# Altium schematic symbol library PX4FMUv2.4.6.SCHLIB: 261 symbols (part 1 of 3)
Pins are listed as number, name and electrical type; pins without a type are passive.

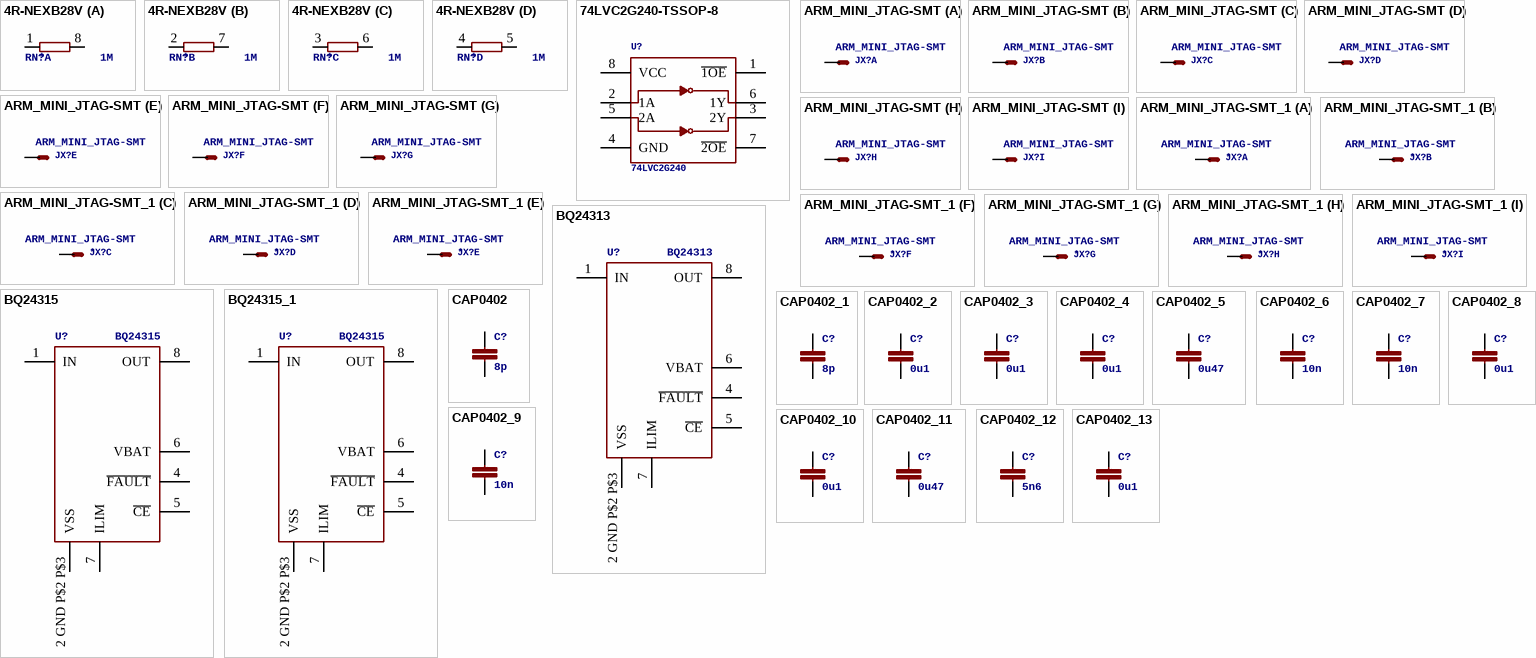
[diagram p0: symbols 4R-NEXB28V to CAP0402_13]

## 4R-NEXB28V
designator RN?, comment 1M
Array Chip ResistorSource: RS Component / Phycomp; PARTNO: EXB-28V105JX; GateName_1: A; SymbolName_1: R1NV; GateName_2: B; GateName_3: C; GateName_4: D; DeviceName: EXB28V; DeviceSetName: 4R-N; SymbolName_2: R1NV; SymbolName_3: R1NV; SymbolName_4: R1NV; LibraryName: resistor-dil; MF: *; MPN: *; OC_FARNELL: unknown; OC_NEWARK: unknown; NAME: *
footprint EXB28V
part A pins: 1, 8 2
part B pins: 2 1, 7 2
part C pins: 3 1, 6 2
part D pins: 4 1, 5 2

## 74LVC2G240-TSSOP-8
designator U?, comment 74LVC2G240
Dual inverter tri-state, 3.3V/5V compatible http://www.nxp.com/documents/data_sheet/74LVC2G240.pdfhttp://focus.ti.com/lit/ds/symlink/sn74lvc2g240.pdf; PARTNO: 74LVC2G240DP,125; GateName_1: G$1; DeviceName: -TSSOP-8; SymbolName_1: 74LVC2G240; LibraryName: pixhawk2; DeviceSetName: 74LVC2G240
footprint TSSOP8_SOT505-2
pins: 1 ~{1OE}, 2 1A, 3 2Y, 4 GND (oe), 5 2A, 6 1Y, 7 ~{2OE}, 8 VCC (oe)

## ARM_MINI_JTAG-SMT
designator JX?
CONNECTORwire to board 1.25 mm (.049 inch) pitch header; PARTNO: M50-3900542; GateName_1: -VTREF; SymbolName_1: MV; GateName_2: -TMS/SWDIO; SymbolName_2: M; GateName_3: -GND1; GateName_4: -TCK/SWCLK; GateName_5: -GND2; GateName_6: -TDO/SWO; GateName_7: -TDI/EXTB; GateName_8: -GND3; GateName_9: -!RESET; DeviceName: -SMT; BOM: EXCLUDE; SymbolName_3: M; SymbolName_4: M; SymbolName_5: M; SymbolName_6: M; SymbolName_7: M; SymbolName_8: M; SymbolName_9: M; LibraryName: pixhawk2; DeviceSetName: ARM_MINI_JTAG
footprint FTSH-105-01-XXX-DV-K
part A pins: 1 S
part B pins: 2 S
part C pins: 3 S
part D pins: 4 S
part E pins: 5 S
part F pins: 6 S
part G pins: 8 S
part H pins: 9 S
part I pins: 10 S

## ARM_MINI_JTAG-SMT_1
designator JX?, comment ARM_MINI_JTAG-SMT
CONNECTORwire to board 1.25 mm (.049 inch) pitch header; PARTNO: M50-3900542; GateName_1: -VTREF; SymbolName_1: MV; GateName_2: -TMS/SWDIO; SymbolName_2: M; GateName_3: -GND1; GateName_4: -TCK/SWCLK; GateName_5: -GND2; GateName_6: -TDO/SWO; GateName_7: -TDI/EXTB; GateName_8: -GND3; GateName_9: -!RESET; DeviceName: -SMT; BOM: EXCLUDE; SymbolName_3: M; SymbolName_4: M; SymbolName_5: M; SymbolName_6: M; SymbolName_7: M; SymbolName_8: M; SymbolName_9: M; LibraryName: pixhawk2; DeviceSetName: ARM_MINI_JTAG; NAME: *
footprint FTSH-105-01-XXX-DV-K
part A pins: 1 S
part B pins: 2 S
part C pins: 3 S
part D pins: 4 S
part E pins: 5 S
part F pins: 6 S
part G pins: 8 S
part H pins: 9 S
part I pins: 10 S

## BQ24313
designator U?
PARTNO: BQ24313DSGT; GateName_1: G$1; SymbolName_1: BQ24313; LibraryName: pixhawk2; DeviceSetName: BQ24313
footprint QFN8-DSG
pins: 1 IN, 2 GND P$2 P$3 VSS, 4 ~{FAULT}, 5 ~{CE}, 6 VBAT, 7 ILIM, 8 OUT

## BQ24315
designator U?
PARTNO: BQ24315DSGR; GateName_1: G$1; SymbolName_1: BQ24313; LibraryName: pixhawk2; DeviceSetName: BQ24315
footprint QFN8-DSG
pins: 1 IN, 2 GND P$2 P$3 VSS, 4 ~{FAULT}, 5 ~{CE}, 6 VBAT, 7 ILIM, 8 OUT

## BQ24315_1
designator U?, comment BQ24315
PARTNO: BQ24315DSGR; GateName_1: G$1; SymbolName_1: BQ24313; LibraryName: pixhawk2; DeviceSetName: BQ24315
footprint QFN8-DSG
pins: 1 IN, 2 GND P$2 P$3 VSS, 4 ~{FAULT}, 5 ~{CE}, 6 VBAT, 7 ILIM, 8 OUT

## CAP0402
designator C?, comment 8p
CapacitorStandard 0603 ceramic capacitor, and 0.1" leaded capacitor.; PARTNO: C1005C0G1H080C; GateName_1: G$1; SymbolName_1: CAP; DeviceName: 0402; LibraryName: pixhawk2; DeviceSetName: CAP
footprint 0402-CAP
pins: P$1 1, P$2 2

## CAP0402_1
designator C?, comment 8p
CapacitorStandard 0603 ceramic capacitor, and 0.1" leaded capacitor.; PARTNO: C1005C0G1H080C; GateName_1: G$1; SymbolName_1: CAP; DeviceName: 0402; LibraryName: pixhawk2; DeviceSetName: CAP
footprint 0402-CAP
pins: P$1 1, P$2 2

## CAP0402_2
designator C?, comment 0u1
CapacitorStandard 0603 ceramic capacitor, and 0.1" leaded capacitor.; PARTNO: CC0402ZRY5V7BB104; GateName_1: G$1; SymbolName_1: CAP; DeviceName: 0402; LibraryName: pixhawk2; DeviceSetName: CAP
footprint 0402-CAP
pins: P$1 1, P$2 2

## CAP0402_3
designator C?, comment 0u1
CapacitorStandard 0603 ceramic capacitor, and 0.1" leaded capacitor.; PARTNO: CC0402ZRY5V7BB104; GateName_1: G$1; SymbolName_1: CAP; DeviceName: 0402; LibraryName: pixhawk2; DeviceSetName: CAP
footprint 0402-CAP
pins: P$1 1, P$2 2

## CAP0402_4
designator C?, comment 0u1
CapacitorStandard 0603 ceramic capacitor, and 0.1" leaded capacitor.; PARTNO: CC0402ZRY5V7BB104; GateName_1: G$1; SymbolName_1: CAP; DeviceName: 0402; LibraryName: pixhawk2; DeviceSetName: CAP
footprint 0402-CAP
pins: P$1 1, P$2 2

## CAP0402_5
designator C?, comment 0u47
CapacitorStandard 0603 ceramic capacitor, and 0.1" leaded capacitor.; PARTNO: C1005X5R1C474K050BC; GateName_1: G$1; SymbolName_1: CAP; DeviceName: 0402; LibraryName: pixhawk2; DeviceSetName: CAP
footprint 0402-CAP
pins: P$1 1, P$2 2

## CAP0402_6
designator C?, comment 10n
CapacitorStandard 0603 ceramic capacitor, and 0.1" leaded capacitor.; PARTNO: CC0402KRX7R7BB103; GateName_1: G$1; SymbolName_1: CAP; DeviceName: 0402; LibraryName: pixhawk2; DeviceSetName: CAP
footprint 0402-CAP
pins: P$1 1, P$2 2

## CAP0402_7
designator C?, comment 10n
CapacitorStandard 0603 ceramic capacitor, and 0.1" leaded capacitor.; PARTNO: CC0402KRX7R7BB103; GateName_1: G$1; SymbolName_1: CAP; DeviceName: 0402; LibraryName: pixhawk2; DeviceSetName: CAP
footprint 0402-CAP
pins: P$1 1, P$2 2

## CAP0402_8
designator C?, comment 0u1
CapacitorStandard 0603 ceramic capacitor, and 0.1" leaded capacitor.; PARTNO: CC0402ZRY5V7BB104; GateName_1: G$1; SymbolName_1: CAP; DeviceName: 0402; LibraryName: pixhawk2; DeviceSetName: CAP
footprint 0402-CAP
pins: P$1 1, P$2 2

## CAP0402_9
designator C?, comment 10n
CapacitorStandard 0603 ceramic capacitor, and 0.1" leaded capacitor.; PARTNO: CC0402KRX7R7BB103; GateName_1: G$1; SymbolName_1: CAP; DeviceName: 0402; LibraryName: pixhawk2; DeviceSetName: CAP
footprint 0402-CAP
pins: P$1 1, P$2 2

## CAP0402_10
designator C?, comment 0u1
CapacitorStandard 0603 ceramic capacitor, and 0.1" leaded capacitor.; PARTNO: CC0402ZRY5V7BB104; GateName_1: G$1; SymbolName_1: CAP; DeviceName: 0402; LibraryName: pixhawk2; DeviceSetName: CAP
footprint 0402-CAP
pins: P$1 1, P$2 2

## CAP0402_11
designator C?, comment 0u47
CapacitorStandard 0603 ceramic capacitor, and 0.1" leaded capacitor.; PARTNO: C1005X5R1C474K050BC; GateName_1: G$1; SymbolName_1: CAP; DeviceName: 0402; LibraryName: pixhawk2; DeviceSetName: CAP
footprint 0402-CAP
pins: P$1 1, P$2 2

## CAP0402_12
designator C?, comment 5n6
CapacitorStandard 0603 ceramic capacitor, and 0.1" leaded capacitor.; PARTNO: C0402C562K5RACTU; GateName_1: G$1; SymbolName_1: CAP; DeviceName: 0402; LibraryName: pixhawk2; DeviceSetName: CAP
footprint 0402-CAP
pins: P$1 1, P$2 2

## CAP0402_13
designator C?, comment 0u1
CapacitorStandard 0603 ceramic capacitor, and 0.1" leaded capacitor.; PARTNO: CC0402ZRY5V7BB104; GateName_1: G$1; SymbolName_1: CAP; DeviceName: 0402; LibraryName: pixhawk2; DeviceSetName: CAP
footprint 0402-CAP
pins: P$1 1, P$2 2

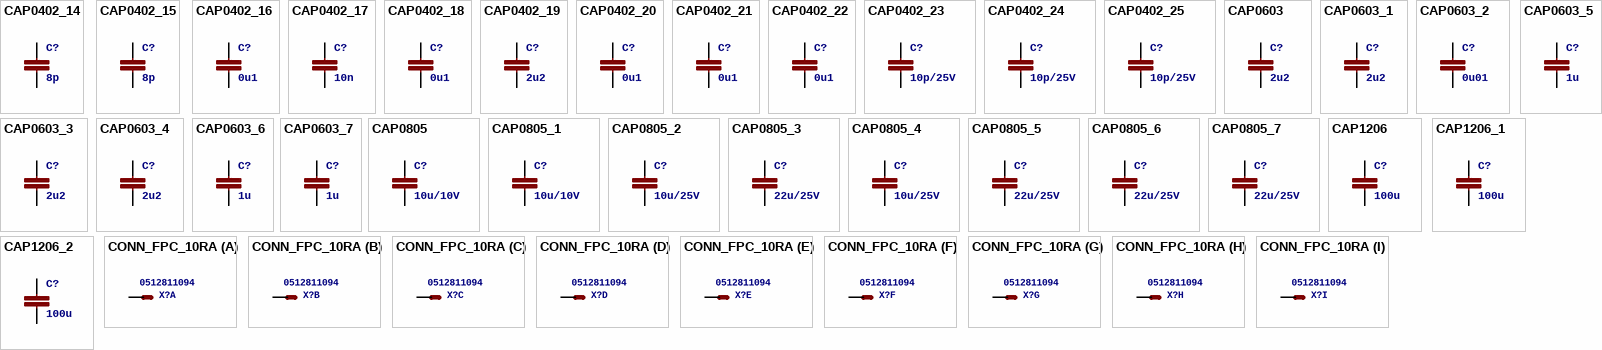
[diagram p1: symbols CAP0402_14 to CONN_FPC_10RA]

## CAP0402_14
designator C?, comment 8p
CapacitorStandard 0603 ceramic capacitor, and 0.1" leaded capacitor.; PARTNO: C1005C0G1H080C; GateName_1: G$1; SymbolName_1: CAP; DeviceName: 0402; LibraryName: pixhawk2; DeviceSetName: CAP
footprint 0402-CAP
pins: P$1 1, P$2 2

## CAP0402_15
designator C?, comment 8p
CapacitorStandard 0603 ceramic capacitor, and 0.1" leaded capacitor.; PARTNO: C1005C0G1H080C; GateName_1: G$1; SymbolName_1: CAP; DeviceName: 0402; LibraryName: pixhawk2; DeviceSetName: CAP
footprint 0402-CAP
pins: P$1 1, P$2 2

## CAP0402_16
designator C?, comment 0u1
CapacitorStandard 0603 ceramic capacitor, and 0.1" leaded capacitor.; PARTNO: CC0402ZRY5V7BB104; GateName_1: G$1; SymbolName_1: CAP; DeviceName: 0402; LibraryName: pixhawk2; DeviceSetName: CAP
footprint 0402-CAP
pins: P$1 1, P$2 2

## CAP0402_17
designator C?, comment 10n
CapacitorStandard 0603 ceramic capacitor, and 0.1" leaded capacitor.; PARTNO: CC0402KRX7R7BB103; GateName_1: G$1; SymbolName_1: CAP; DeviceName: 0402; LibraryName: pixhawk2; DeviceSetName: CAP
footprint 0402-CAP
pins: P$1 1, P$2 2

## CAP0402_18
designator C?, comment 0u1
CapacitorStandard 0603 ceramic capacitor, and 0.1" leaded capacitor.; PARTNO: CC0402ZRY5V7BB104; GateName_1: G$1; SymbolName_1: CAP; DeviceName: 0402; LibraryName: pixhawk2; DeviceSetName: CAP
footprint 0402-CAP
pins: P$1 1, P$2 2

## CAP0402_19
designator C?, comment 2u2
CapacitorStandard 0603 ceramic capacitor, and 0.1" leaded capacitor.; PARTNO: C1005X6S1C225K050BC; GateName_1: G$1; SymbolName_1: CAP; DeviceName: 0402; LibraryName: pixhawk2; DeviceSetName: CAP
footprint 0402-CAP
pins: P$1 1, P$2 2

## CAP0402_20
designator C?, comment 0u1
CapacitorStandard 0603 ceramic capacitor, and 0.1" leaded capacitor.; PARTNO: C1005X7R1E104K050BB; GateName_1: G$1; SymbolName_1: CAP; DeviceName: 0402; LibraryName: pixhawk2; DeviceSetName: CAP
footprint 0402-CAP
pins: P$1 1, P$2 2

## CAP0402_21
designator C?, comment 0u1
CapacitorStandard 0603 ceramic capacitor, and 0.1" leaded capacitor.; PARTNO: C1005X7R1E104K050BB; GateName_1: G$1; SymbolName_1: CAP; DeviceName: 0402; LibraryName: pixhawk2; DeviceSetName: CAP
footprint 0402-CAP
pins: P$1 1, P$2 2

## CAP0402_22
designator C?, comment 0u1
CapacitorStandard 0603 ceramic capacitor, and 0.1" leaded capacitor.; PARTNO: C1005X7R1E104K050BB; GateName_1: G$1; SymbolName_1: CAP; DeviceName: 0402; LibraryName: pixhawk2; DeviceSetName: CAP
footprint 0402-CAP
pins: P$1 1, P$2 2

## CAP0402_23
designator C?, comment 10p/25V
CapacitorStandard 0603 ceramic capacitor, and 0.1" leaded capacitor.; PARTNO: C0402C100J3GACTU; GateName_1: G$1; SymbolName_1: CAP; DeviceName: 0402; LibraryName: pixhawk2; DeviceSetName: CAP
footprint 0402-CAP
pins: P$1 1, P$2 2

## CAP0402_24
designator C?, comment 10p/25V
CapacitorStandard 0603 ceramic capacitor, and 0.1" leaded capacitor.; PARTNO: C0402C100J3GACTU; GateName_1: G$1; SymbolName_1: CAP; DeviceName: 0402; LibraryName: pixhawk2; DeviceSetName: CAP
footprint 0402-CAP
pins: P$1 1, P$2 2

## CAP0402_25
designator C?, comment 10p/25V
CapacitorStandard 0603 ceramic capacitor, and 0.1" leaded capacitor.; PARTNO: C0402C100J3GACTU; GateName_1: G$1; SymbolName_1: CAP; DeviceName: 0402; LibraryName: pixhawk2; DeviceSetName: CAP
footprint 0402-CAP
pins: P$1 1, P$2 2

## CAP0603
designator C?, comment 2u2
CapacitorStandard 0603 ceramic capacitor, and 0.1" leaded capacitor.; PARTNO: C1608X6S1C225K080AC; GateName_1: G$1; SymbolName_1: CAP; DeviceName: 0603; LibraryName: pixhawk2; DeviceSetName: CAP
footprint 0603-CAP
pins: P$1 1, P$2 2

## CAP0603_1
designator C?, comment 2u2
CapacitorStandard 0603 ceramic capacitor, and 0.1" leaded capacitor.; PARTNO: C1608X6S1C225K080AC; GateName_1: G$1; SymbolName_1: CAP; DeviceName: 0603; LibraryName: pixhawk2; DeviceSetName: CAP
footprint 0603-CAP
pins: P$1 1, P$2 2

## CAP0603_2
designator C?, comment 0u01
CapacitorStandard 0603 ceramic capacitor, and 0.1" leaded capacitor.; PARTNO: 06033C103JAT2A; GateName_1: G$1; SymbolName_1: CAP; DeviceName: 0603; LibraryName: pixhawk2; DeviceSetName: CAP
footprint 0603-CAP
pins: P$1 1, P$2 2

## CAP0603_3
designator C?, comment 2u2
CapacitorStandard 0603 ceramic capacitor, and 0.1" leaded capacitor.; PARTNO: C1608X6S1C225K080AC; GateName_1: G$1; SymbolName_1: CAP; DeviceName: 0603; LibraryName: pixhawk2; DeviceSetName: CAP
footprint 0603-CAP
pins: P$1 1, P$2 2

## CAP0603_4
designator C?, comment 2u2
CapacitorStandard 0603 ceramic capacitor, and 0.1" leaded capacitor.; PARTNO: C1608X6S1C225K080AC; GateName_1: G$1; SymbolName_1: CAP; DeviceName: 0603; LibraryName: pixhawk2; DeviceSetName: CAP
footprint 0603-CAP
pins: P$1 1, P$2 2

## CAP0603_5
designator C?, comment 1u
CapacitorStandard 0603 ceramic capacitor, and 0.1" leaded capacitor.; PARTNO: CC0603ZRY5V7BB105; GateName_1: G$1; SymbolName_1: CAP; DeviceName: 0603; LibraryName: pixhawk2; DeviceSetName: CAP
footprint 0603-CAP
pins: P$1 1, P$2 2

## CAP0603_6
designator C?, comment 1u
CapacitorStandard 0603 ceramic capacitor, and 0.1" leaded capacitor.; PARTNO: CC0603ZRY5V7BB105; GateName_1: G$1; SymbolName_1: CAP; DeviceName: 0603; LibraryName: pixhawk2; DeviceSetName: CAP
footprint 0603-CAP
pins: P$1 1, P$2 2

## CAP0603_7
designator C?, comment 1u
CapacitorStandard 0603 ceramic capacitor, and 0.1" leaded capacitor.; PARTNO: CC0603ZRY5V7BB105; GateName_1: G$1; SymbolName_1: CAP; DeviceName: 0603; LibraryName: pixhawk2; DeviceSetName: CAP
footprint 0603-CAP
pins: P$1 1, P$2 2

## CAP0805
designator C?, comment 10u/10V
CapacitorStandard 0603 ceramic capacitor, and 0.1" leaded capacitor.; PARTNO: CC0805ZKY5V6BB106; GateName_1: G$1; SymbolName_1: CAP; DeviceName: 0805; LibraryName: pixhawk2; DeviceSetName: CAP
footprint 0805-CAP
pins: P$1 1, P$2 2

## CAP0805_1
designator C?, comment 10u/10V
CapacitorStandard 0603 ceramic capacitor, and 0.1" leaded capacitor.; PARTNO: CC0805ZKY5V6BB106; GateName_1: G$1; SymbolName_1: CAP; DeviceName: 0805; LibraryName: pixhawk2; DeviceSetName: CAP
footprint 0805-CAP
pins: P$1 1, P$2 2

## CAP0805_2
designator C?, comment 10u/25V
CapacitorStandard 0603 ceramic capacitor, and 0.1" leaded capacitor.; PARTNO: CL21A106KAYNNNE; GateName_1: G$1; SymbolName_1: CAP; DeviceName: 0805; LibraryName: pixhawk2; DeviceSetName: CAP
footprint 0805-CAP
pins: P$1 1, P$2 2

## CAP0805_3
designator C?, comment 22u/25V
CapacitorStandard 0603 ceramic capacitor, and 0.1" leaded capacitor.; PARTNO: CL21A226MAQNNNE; GateName_1: G$1; SymbolName_1: CAP; DeviceName: 0805; LibraryName: pixhawk2; DeviceSetName: CAP
footprint 0805-CAP
pins: P$1 1, P$2 2

## CAP0805_4
designator C?, comment 10u/25V
CapacitorStandard 0603 ceramic capacitor, and 0.1" leaded capacitor.; PARTNO: CL21A106KAYNNNE; GateName_1: G$1; SymbolName_1: CAP; DeviceName: 0805; LibraryName: pixhawk2; DeviceSetName: CAP
footprint 0805-CAP
pins: P$1 1, P$2 2

## CAP0805_5
designator C?, comment 22u/25V
CapacitorStandard 0603 ceramic capacitor, and 0.1" leaded capacitor.; PARTNO: CL21A226MAQNNNE; GateName_1: G$1; SymbolName_1: CAP; DeviceName: 0805; LibraryName: pixhawk2; DeviceSetName: CAP
footprint 0805-CAP
pins: P$1 1, P$2 2

## CAP0805_6
designator C?, comment 22u/25V
CapacitorStandard 0603 ceramic capacitor, and 0.1" leaded capacitor.; PARTNO: CL21A226MAQNNNE; GateName_1: G$1; SymbolName_1: CAP; DeviceName: 0805; LibraryName: pixhawk2; DeviceSetName: CAP
footprint 0805-CAP
pins: P$1 1, P$2 2

## CAP0805_7
designator C?, comment 22u/25V
CapacitorStandard 0603 ceramic capacitor, and 0.1" leaded capacitor.; PARTNO: CL21A226MAQNNNE; GateName_1: G$1; SymbolName_1: CAP; DeviceName: 0805; LibraryName: pixhawk2; DeviceSetName: CAP
footprint 0805-CAP
pins: P$1 1, P$2 2

## CAP1206
designator C?, comment 100u
CapacitorStandard 0603 ceramic capacitor, and 0.1" leaded capacitor.; PARTNO: C3216X5R1A107M160AC; GateName_1: G$1; SymbolName_1: CAP; DeviceName: 1206; LibraryName: pixhawk2; DeviceSetName: CAP
footprint 1206-CAP
pins: P$1 1, P$2 2

## CAP1206_1
designator C?, comment 100u
CapacitorStandard 0603 ceramic capacitor, and 0.1" leaded capacitor.; PARTNO: C3216X5R1A107M160AC; GateName_1: G$1; SymbolName_1: CAP; DeviceName: 1206; LibraryName: pixhawk2; DeviceSetName: CAP
footprint 1206-CAP
pins: P$1 1, P$2 2

## CAP1206_2
designator C?, comment 100u
CapacitorStandard 0603 ceramic capacitor, and 0.1" leaded capacitor.; PARTNO: C3216X5R1A107M160AC; GateName_1: G$1; SymbolName_1: CAP; DeviceName: 1206; LibraryName: pixhawk2; DeviceSetName: CAP
footprint 1206-CAP
pins: P$1 1, P$2 2

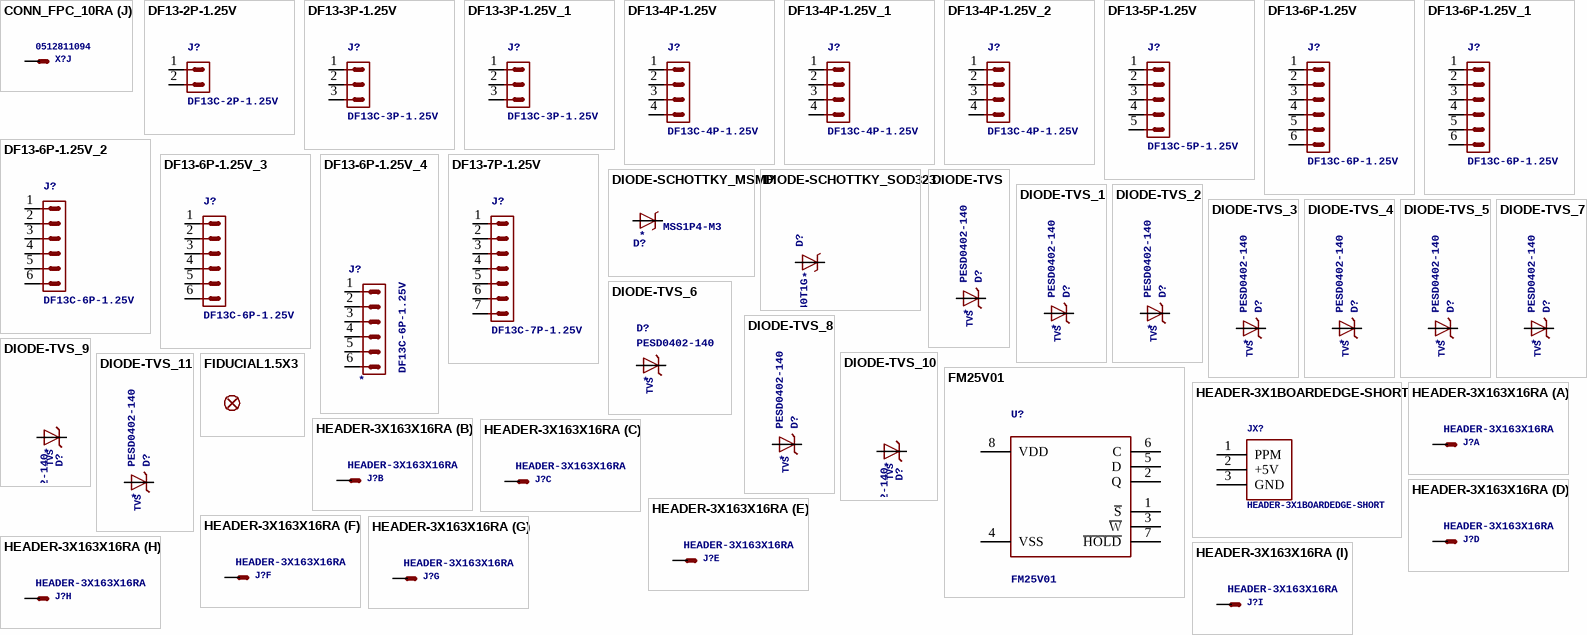
[diagram p2: symbols CONN_FPC_10RA to HEADER-3X163X16RA]

## CONN_FPC_10RA
designator X?, comment 0512811094
10-pin FPC connector for PX4 sensor board; PARTNO: 0781191109; GateName_1: G$1; SymbolName_1: KV; GateName_2: G$2; SymbolName_2: K; GateName_3: G$3; GateName_4: G$4; GateName_5: G$5; GateName_6: G$6; GateName_7: G$7; GateName_8: G$8; GateName_9: G$9; GateName_10: G$10; DeviceName: RA; DeviceSetName: CONN_FPC_10; BOM: EXCLUDE; SymbolName_3: K; SymbolName_4: K; SymbolName_5: K; SymbolName_6: K; SymbolName_7: K; SymbolName_8: K; SymbolName_9: K; SymbolName_10: K; LibraryName: pixhawk2
footprint 51281-1094
part A pins: 1 S
part B pins: 2 S
part C pins: 3 S
part D pins: 4 S
part E pins: 5 S
part F pins: 6 S
part G pins: 7 S
part H pins: 8 S
part I pins: 9 S
part J pins: 10 S

## DF13-2P-1.25V
designator J?, comment DF13C-2P-1.25V
DF13-2P 1.25mm Pitch Miniature Crimping Connector.; PARTNO: DF13C-2P-1.25V(20); GateName_1: G$1; SymbolName_1: CON-1X2P; DeviceName: V; DeviceSetName: DF13-2P-1.25; LibraryName: con-hirose-df13
footprint DF13C-2P-1.25V
pins: 1, 2

## DF13-3P-1.25V
designator J?, comment DF13C-3P-1.25V
DF13-3P 1.25mm Pitch Miniature Crimping Connector.; PARTNO: DF13C-3P-1.25V(20); GateName_1: G$1; SymbolName_1: CON-1X3P; DeviceName: V; DeviceSetName: DF13-3P-1.25; LibraryName: con-hirose-df13
footprint DF13C-3P-1.25V
pins: 1, 2, 3

## DF13-3P-1.25V_1
designator J?, comment DF13C-3P-1.25V
DF13-3P 1.25mm Pitch Miniature Crimping Connector.; PARTNO: DF13C-3P-1.25V(20); GateName_1: G$1; SymbolName_1: CON-1X3P; DeviceName: V; DeviceSetName: DF13-3P-1.25; LibraryName: con-hirose-df13
footprint DF13C-3P-1.25V
pins: 1, 2, 3

## DF13-4P-1.25V
designator J?, comment DF13C-4P-1.25V
DF13-4P 1.25mm Pitch Miniature Crimping Connector.; PARTNO: DF13C-4P-1.25V(20); GateName_1: G$1; SymbolName_1: CON-1X4P; DeviceName: V; DeviceSetName: DF13-4P-1.25; LibraryName: con-hirose-df13
footprint DF13C-4P-1.25V
pins: 1, 2, 3, 4

## DF13-4P-1.25V_1
designator J?, comment DF13C-4P-1.25V
DF13-4P 1.25mm Pitch Miniature Crimping Connector.; PARTNO: DF13C-4P-1.25V(20); GateName_1: G$1; SymbolName_1: CON-1X4P; DeviceName: V; DeviceSetName: DF13-4P-1.25; LibraryName: con-hirose-df13
footprint DF13C-4P-1.25V
pins: 1, 2, 3, 4

## DF13-4P-1.25V_2
designator J?, comment DF13C-4P-1.25V
DF13-4P 1.25mm Pitch Miniature Crimping Connector.; PARTNO: DF13C-4P-1.25V(20); GateName_1: G$1; SymbolName_1: CON-1X4P; DeviceName: V; DeviceSetName: DF13-4P-1.25; LibraryName: con-hirose-df13
footprint DF13C-4P-1.25V
pins: 1, 2, 3, 4

## DF13-5P-1.25V
designator J?, comment DF13C-5P-1.25V
DF13-5P 1.25mm Pitch Miniature Crimping Connector.; PARTNO: DF13C-5P-1.25V(20); GateName_1: G$1; SymbolName_1: CON-1X5P; DeviceName: V; DeviceSetName: DF13-5P-1.25; LibraryName: con-hirose-df13
footprint DF13C-5P-1.25V
pins: 1, 2, 3, 4, 5

## DF13-6P-1.25V
designator J?, comment DF13C-6P-1.25V
DF13-6P 1.25mm Pitch Miniature Crimping Connector.; PARTNO: DF13C-6P-1.25V(20); GateName_1: G$1; SymbolName_1: CON-1X6P; DeviceName: V; DeviceSetName: DF13-6P-1.25; LibraryName: con-hirose-df13
footprint DF13C-6P-1.25V
pins: 1, 2, 3, 4, 5, 6

## DF13-6P-1.25V_1
designator J?, comment DF13C-6P-1.25V
DF13-6P 1.25mm Pitch Miniature Crimping Connector.; PARTNO: DF13C-6P-1.25V(20); GateName_1: G$1; SymbolName_1: CON-1X6P; DeviceName: V; DeviceSetName: DF13-6P-1.25; LibraryName: con-hirose-df13
footprint DF13C-6P-1.25V
pins: 1, 2, 3, 4, 5, 6

## DF13-6P-1.25V_2
designator J?, comment DF13C-6P-1.25V
DF13-6P 1.25mm Pitch Miniature Crimping Connector.; PARTNO: DF13C-6P-1.25V(20); GateName_1: G$1; SymbolName_1: CON-1X6P; DeviceName: V; DeviceSetName: DF13-6P-1.25; LibraryName: con-hirose-df13
footprint DF13C-6P-1.25V
pins: 1, 2, 3, 4, 5, 6

## DF13-6P-1.25V_3
designator J?, comment DF13C-6P-1.25V
DF13-6P 1.25mm Pitch Miniature Crimping Connector.; PARTNO: DF13C-6P-1.25V(20); GateName_1: G$1; SymbolName_1: CON-1X6P; DeviceName: V; DeviceSetName: DF13-6P-1.25; LibraryName: con-hirose-df13
footprint DF13C-6P-1.25V
pins: 1, 2, 3, 4, 5, 6

## DF13-6P-1.25V_4
designator J?, comment DF13C-6P-1.25V
DF13-6P 1.25mm Pitch Miniature Crimping Connector.; PARTNO: DF13C-6P-1.25V(20); GateName_1: G$1; SymbolName_1: CON-1X6P; DeviceName: V; DeviceSetName: DF13-6P-1.25; LibraryName: con-hirose-df13; NAME: *
footprint DF13C-6P-1.25V
pins: 1, 2, 3, 4, 5, 6

## DF13-7P-1.25V
designator J?, comment DF13C-7P-1.25V
DF13-7P 1.25mm Pitch Miniature Crimping Connector.; PARTNO: DF13C-7P-1.25V(20); GateName_1: G$1; SymbolName_1: CON-1X7P; DeviceName: V; DeviceSetName: DF13-7P-1.25; LibraryName: con-hirose-df13
footprint DF13C-7P-1.25V
pins: 1, 2, 3, 4, 5, 6, 7

## DIODE-SCHOTTKY_MSMP
designator D?, comment MSS1P4-M3
Schottky barrier diode in DO214AC, e.g. Fairchild SS14.; PARTNO: MSS1P4-M3/89A; GateName_1: G$1; SymbolName_1: DIODE-SCHOTTKY; DeviceName: _MSMP; LibraryName: pixhawk2; DeviceSetName: DIODE-SCHOTTKY; NAME: *
footprint MICROSMP
pins: ANODE A, CATHODE C

## DIODE-SCHOTTKY_SOD323
designator D?, comment RB751V40T1G
Schottky barrier diode in DO214AC, e.g. Fairchild SS14.; GateName_1: G$1; SymbolName_1: DIODE-SCHOTTKY; DeviceName: _SOD323; LibraryName: pixhawk2; DeviceSetName: DIODE-SCHOTTKY; NAME: *; PARTNO: RB751V40T1G
footprint SOD323
pins: A, C

## DIODE-TVS
designator D?, comment PESD0402-140
GateName_1: G$1; SymbolName_1: DIODE-TVS; LibraryName: pixhawk2; DeviceSetName: DIODE-TVS; NAME: *; PARTNO: PESD0402-140; TVS: TVS
footprint 0402-TVS
pins: A, C

## DIODE-TVS_1
designator D?, comment PESD0402-140
GateName_1: G$1; SymbolName_1: DIODE-TVS; LibraryName: pixhawk2; DeviceSetName: DIODE-TVS; NAME: *; PARTNO: PESD0402-140; TVS: TVS
footprint 0402-TVS
pins: A, C

## DIODE-TVS_2
designator D?, comment PESD0402-140
GateName_1: G$1; SymbolName_1: DIODE-TVS; LibraryName: pixhawk2; DeviceSetName: DIODE-TVS; NAME: *; PARTNO: PESD0402-140; TVS: TVS
footprint 0402-TVS
pins: A, C

## DIODE-TVS_3
designator D?, comment PESD0402-140
GateName_1: G$1; SymbolName_1: DIODE-TVS; LibraryName: pixhawk2; DeviceSetName: DIODE-TVS; NAME: *; PARTNO: PESD0402-140; TVS: TVS
footprint 0402-TVS
pins: A, C

## DIODE-TVS_4
designator D?, comment PESD0402-140
GateName_1: G$1; SymbolName_1: DIODE-TVS; LibraryName: pixhawk2; DeviceSetName: DIODE-TVS; NAME: *; PARTNO: PESD0402-140; TVS: TVS
footprint 0402-TVS
pins: A, C

## DIODE-TVS_5
designator D?, comment PESD0402-140
GateName_1: G$1; SymbolName_1: DIODE-TVS; LibraryName: pixhawk2; DeviceSetName: DIODE-TVS; NAME: *; PARTNO: PESD0402-140; TVS: TVS
footprint 0402-TVS
pins: A, C

## DIODE-TVS_6
designator D?, comment PESD0402-140
GateName_1: G$1; SymbolName_1: DIODE-TVS; LibraryName: pixhawk2; DeviceSetName: DIODE-TVS; NAME: *; PARTNO: PESD0402-140; TVS: TVS
footprint 0402-TVS
pins: A, C

## DIODE-TVS_7
designator D?, comment PESD0402-140
GateName_1: G$1; SymbolName_1: DIODE-TVS; LibraryName: pixhawk2; DeviceSetName: DIODE-TVS; NAME: *; PARTNO: PESD0402-140; TVS: TVS
footprint 0402-TVS
pins: A, C

## DIODE-TVS_8
designator D?, comment PESD0402-140
GateName_1: G$1; SymbolName_1: DIODE-TVS; LibraryName: pixhawk2; DeviceSetName: DIODE-TVS; NAME: *; PARTNO: PESD0402-140; TVS: TVS
footprint 0402-TVS
pins: A, C

## DIODE-TVS_9
designator D?, comment PESD0402-140
GateName_1: G$1; SymbolName_1: DIODE-TVS; LibraryName: pixhawk2; DeviceSetName: DIODE-TVS; NAME: *; PARTNO: PESD0402-140; TVS: TVS
footprint 0402-TVS
pins: A, C

## DIODE-TVS_10
designator D?, comment PESD0402-140
GateName_1: G$1; SymbolName_1: DIODE-TVS; LibraryName: pixhawk2; DeviceSetName: DIODE-TVS; NAME: *; PARTNO: PESD0402-140; TVS: TVS
footprint 0402-TVS
pins: A, C

## DIODE-TVS_11
designator D?, comment PESD0402-140
GateName_1: G$1; SymbolName_1: DIODE-TVS; LibraryName: pixhawk2; DeviceSetName: DIODE-TVS; NAME: *; PARTNO: PESD0402-140; TVS: TVS
footprint 0402-TVS
pins: A, C

## FIDUCIAL1.5X3
designator JP?  (value not drawn)
Fiducial Alignment PointsVarious fiducial points for machine vision alignment.; GateName_1: G$1; DeviceName: 1.5X3; BOM: EXCLUDE; SymbolName_1: FIDUCIAL; LibraryName: pixhawk2; DeviceSetName: FIDUCIAL; PARTNO: *
footprint FIDUCIAL-1.5X3

## FM25V01
designator U?
FM25V01 128Kb Serial 3V F-RAM Memory; PARTNO: FM25V01-G; GateName_1: G$1; SymbolName_1: FM25V01; LibraryName: pixhawk2; DeviceSetName: FM25V01; DATASHEET: http://www.ramtron.com/files/datasheets/FM25V01_ds.pdf; LINK: http://www.digikey.com/product-detail/en/FM25V01-GTR/1140-1026-1-ND/2809832; MFGPN: FM25V01
footprint SO08
pins: 1 ~{S}, 2 Q, 3 ~{W}, 4 VSS, 5 D, 6 C, 7 ~{HOLD}, 8 VDD

## HEADER-3X1BOARDEDGE-SHORT
designator JX?
Single row 0.1" servo header; GateName_1: G$1; SymbolName_1: SERVO1; BOM: EXCLUDE; DeviceName: BOARDEDGE-SHORT; LibraryName: pixhawk2; DeviceSetName: HEADER-3X1
footprint HEADER_3X01_SMD_H_BOARD_EDGE_SHORT
pins: 1 PPM, 2 +5V, 3 GND

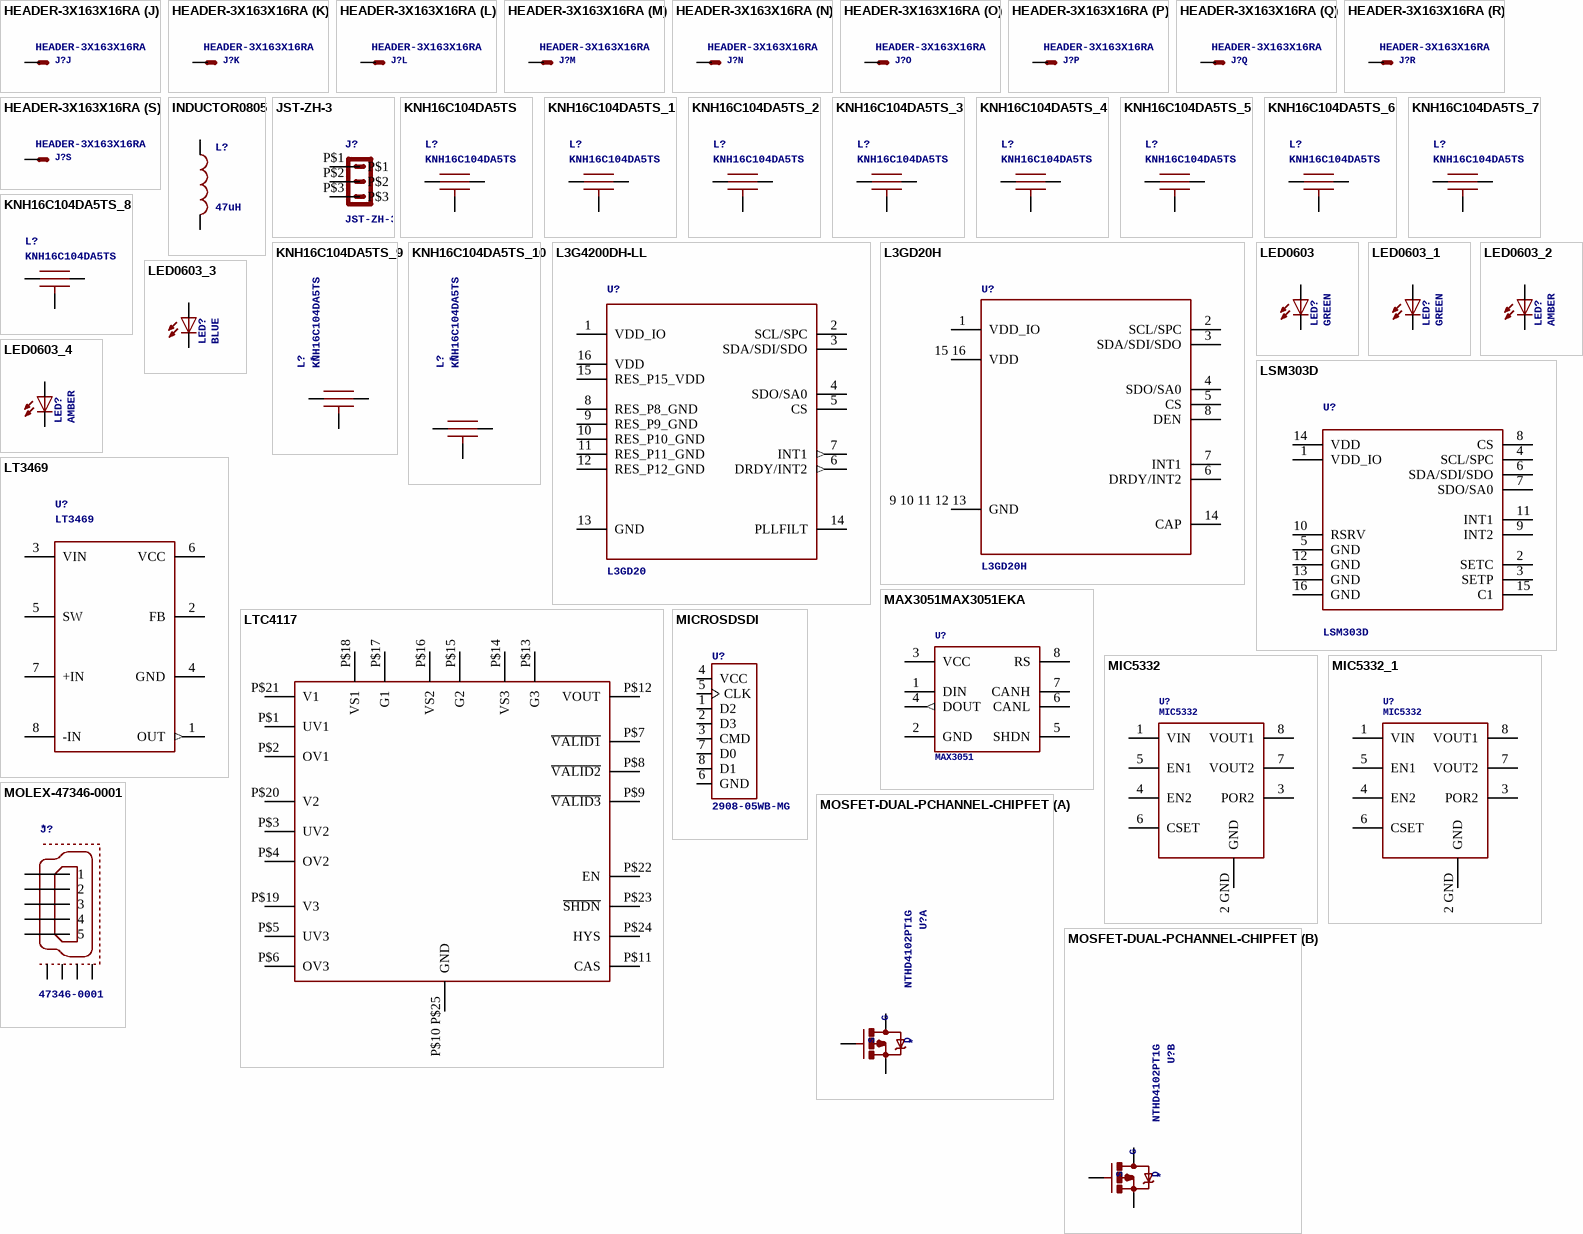
[diagram p3: symbols HEADER-3X163X16RA to MOSFET-DUAL-PCHANNEL-CHIPFET]

## HEADER-3X163X16RA
designator J?
3x16 servo header; GateName_1: -1; SymbolName_1: MV-1; GateName_2: -2; GateName_3: -4; GateName_4: -7; GateName_5: -10; GateName_6: -13; GateName_7: -16; GateName_8: -19; GateName_9: -22; GateName_10: -25; GateName_11: -28; GateName_12: -31; GateName_13: -34; GateName_14: -37; GateName_15: -40; GateName_16: -43; GateName_17: -46; GateName_18: -GND; GateName_19: -VCC; DeviceName: 3X16RA; BOM: EXCLUDE; SymbolName_2: MV-1; SymbolName_3: MV-1; SymbolName_4: MV-1; SymbolName_5: MV-1; SymbolName_6: MV-1; SymbolName_7: MV-1; SymbolName_8: MV-1; SymbolName_9: MV-1; SymbolName_10: MV-1; SymbolName_11: MV-1; SymbolName_12: MV-1; SymbolName_13: MV-1; SymbolName_14: MV-1; SymbolName_15: MV-1; SymbolName_16: MV-1; SymbolName_17: MV-1; SymbolName_18: MV-1; SymbolName_19: MV-1; LibraryName: pixhawk2; DeviceSetName: HEADER-3X16
footprint 3X16RA
part A pins: 1 S
part B pins: 2 S
part C pins: 4 S
part D pins: 7 S
part E pins: 10 S
part F pins: 13 S
part G pins: 16 S
part H pins: 19 S
part I pins: 22 S
part J pins: 25 S
part K pins: 28 S
part L pins: 31 S
part M pins: 34 S
part N pins: 37 S
part O pins: 40 S
part P pins: 43 S
part Q pins: 46 S
part R pins: 3 6 9 12 15 18 21 24 27 30 33 36 39 42 45 48 S
part S pins: 5 8 11 14 17 20 23 26 29 32 35 38 41 44 47 S

## INDUCTOR0805
designator L?, comment 47uH
InductorsBasic Inductor/Choke - 0603 and 1210. Footprints are not proven and vary greatly between part numbers. SRR1210: Bourns SRR1210 parts, e.g. SRR1210-100M; PARTNO: MLZ2012M470W; GateName_1: G$1; DeviceName: 0805; SymbolName_1: INDUCTOR; LibraryName: pixhawk2; DeviceSetName: INDUCTOR
footprint 0805-IND
pins: P$1 1, P$2 2

## JST-ZH-3
designator J?
PARTNO: B3B-ZR-SM4-TF (LF)(SN)(P); GateName_1: G$1; SymbolName_1: JST-ZH-3; LibraryName: for-transfers; DeviceSetName: JST-ZH-3
footprint JST-ZH-SMT-VERTICAL
pins: P$1, P$2, P$3

## KNH16C104DA5TS
designator L?
Kyocera KNH16C104DA5TS EMI filter; GateName_1: G$1; SymbolName_1: CAP-FEEDTHROUGH; LibraryName: pixhawk2; DeviceSetName: KNH16C104DA5TS; PARTNO: KNH16C104DA5TS
footprint KYOCERA-KNH16-DA
pins: P$1, P$2, P$3 P$4 P$5 P$3

## KNH16C104DA5TS_1
designator L?, comment KNH16C104DA5TS
Kyocera KNH16C104DA5TS EMI filter; GateName_1: G$1; SymbolName_1: CAP-FEEDTHROUGH; LibraryName: pixhawk2; DeviceSetName: KNH16C104DA5TS; PARTNO: KNH16C104DA5TS
footprint KYOCERA-KNH16-DA
pins: P$1, P$2, P$3 P$4 P$5 P$3

## KNH16C104DA5TS_2
designator L?, comment KNH16C104DA5TS
Kyocera KNH16C104DA5TS EMI filter; GateName_1: G$1; SymbolName_1: CAP-FEEDTHROUGH; LibraryName: pixhawk2; DeviceSetName: KNH16C104DA5TS; PARTNO: KNH16C104DA5TS
footprint KYOCERA-KNH16-DA
pins: P$1, P$2, P$3 P$4 P$5 P$3

## KNH16C104DA5TS_3
designator L?, comment KNH16C104DA5TS
Kyocera KNH16C104DA5TS EMI filter; GateName_1: G$1; SymbolName_1: CAP-FEEDTHROUGH; LibraryName: pixhawk2; DeviceSetName: KNH16C104DA5TS; PARTNO: KNH16C104DA5TS
footprint KYOCERA-KNH16-DA
pins: P$1, P$2, P$3 P$4 P$5 P$3

## KNH16C104DA5TS_4
designator L?, comment KNH16C104DA5TS
Kyocera KNH16C104DA5TS EMI filter; GateName_1: G$1; SymbolName_1: CAP-FEEDTHROUGH; LibraryName: pixhawk2; DeviceSetName: KNH16C104DA5TS; PARTNO: KNH16C104DA5TS
footprint KYOCERA-KNH16-DA
pins: P$1, P$2, P$3 P$4 P$5 P$3

## KNH16C104DA5TS_5
designator L?, comment KNH16C104DA5TS
Kyocera KNH16C104DA5TS EMI filter; GateName_1: G$1; SymbolName_1: CAP-FEEDTHROUGH; LibraryName: pixhawk2; DeviceSetName: KNH16C104DA5TS; PARTNO: KNH16C104DA5TS
footprint KYOCERA-KNH16-DA
pins: P$1, P$2, P$3 P$4 P$5 P$3

## KNH16C104DA5TS_6
designator L?, comment KNH16C104DA5TS
Kyocera KNH16C104DA5TS EMI filter; GateName_1: G$1; SymbolName_1: CAP-FEEDTHROUGH; LibraryName: pixhawk2; DeviceSetName: KNH16C104DA5TS; PARTNO: KNH16C104DA5TS
footprint KYOCERA-KNH16-DA
pins: P$1, P$2, P$3 P$4 P$5 P$3

## KNH16C104DA5TS_7
designator L?, comment KNH16C104DA5TS
Kyocera KNH16C104DA5TS EMI filter; GateName_1: G$1; SymbolName_1: CAP-FEEDTHROUGH; LibraryName: pixhawk2; DeviceSetName: KNH16C104DA5TS; PARTNO: KNH16C104DA5TS
footprint KYOCERA-KNH16-DA
pins: P$1, P$2, P$3 P$4 P$5 P$3

## KNH16C104DA5TS_8
designator L?, comment KNH16C104DA5TS
Kyocera KNH16C104DA5TS EMI filter; GateName_1: G$1; SymbolName_1: CAP-FEEDTHROUGH; LibraryName: pixhawk2; DeviceSetName: KNH16C104DA5TS; PARTNO: KNH16C104DA5TS
footprint KYOCERA-KNH16-DA
pins: P$1, P$2, P$3 P$4 P$5 P$3

## KNH16C104DA5TS_9
designator L?, comment KNH16C104DA5TS
Kyocera KNH16C104DA5TS EMI filter; GateName_1: G$1; SymbolName_1: CAP-FEEDTHROUGH; LibraryName: pixhawk2; DeviceSetName: KNH16C104DA5TS; NAME: *; PARTNO: KNH16C104DA5TS
footprint KYOCERA-KNH16-DA
pins: P$1, P$2, P$3 P$4 P$5 P$3

## KNH16C104DA5TS_10
designator L?, comment KNH16C104DA5TS
Kyocera KNH16C104DA5TS EMI filter; GateName_1: G$1; SymbolName_1: CAP-FEEDTHROUGH; LibraryName: pixhawk2; DeviceSetName: KNH16C104DA5TS; NAME: *; PARTNO: KNH16C104DA5TS
footprint KYOCERA-KNH16-DA
pins: P$1, P$2, P$3 P$4 P$5 P$3

## L3G4200DH-LL
designator U?, comment L3GD20
L3G4200DH - Digital 3-axis GyroscopeThe L3G4200DH is a low-power three-axis angular rate sensor. The L3G4200DH has a full scale of 卤250/卤500/ 卤2000 dps and is capable of measuring rates with a user-selectable bandwidth. It can operate within a temperature range from -40 掳C to +85 掳C. Supply voltage: 2.4 V to 3.6 V. Full datasheet:L3G4200DH Datasheet; GateName_1: G$1; DeviceName: -LL; SymbolName_1: L3G4200DH; LibraryName: pixhawk2; DeviceSetName: L3G4200DH; PARTNO: L3GD20
footprint L3G4200DH-MAN
pins: 1 VDD_IO, 2 SCL/SPC, 3 SDA/SDI/SDO, 4 SDO/SA0, 5 CS, 6 DRDY/INT2 (out), 7 INT1 (out), 8 RES_P8_GND, 9 RES_P9_GND, 10 RES_P10_GND, 11 RES_P11_GND, 12 RES_P12_GND, 13 GND, 14 PLLFILT, 15 RES_P15_VDD, 16 VDD

## L3GD20H
designator U?
L3GD20H MEMS motion sensor: 3-axis digital output gyroscope; GateName_1: G$1; BOM: EXCLUDE; SymbolName_1: L3GD20H; LibraryName: pixhawk2; DeviceSetName: L3GD20H; DATASHEET: http://www.st.com/internet/com/TECHNICAL_RESOURCES/TECHNICAL_LITERATURE/DATASHEET/DM00060659.pdf; LINK: http://www.st.com/internet/analog/product/254039.jsp; MFGPN: L3GD20H; PARTNO: L3GD20H
footprint LGA-16L
pins: 1 VDD_IO, 2 SCL/SPC, 3 SDA/SDI/SDO, 4 SDO/SA0, 5 CS, 6 DRDY/INT2, 7 INT1, 8 DEN, 9 10 11 12 13 GND, 14 CAP, 15 16 VDD

## LED0603
designator LED?, comment GREEN
LEDsStandard schematic elements and footprints for 5mm, 3mm, 1206, and 0603 sized LEDs. 5mm - Spark Fun Electronics SKU : COM-00529 (and others); PARTNO: APTD1608CGCK; GateName_1: G$1; SymbolName_1: LED; DeviceName: 0603; LibraryName: pixhawk2; DeviceSetName: LED
footprint 0603-LED
pins: A, C

## LED0603_1
designator LED?, comment GREEN
LEDsStandard schematic elements and footprints for 5mm, 3mm, 1206, and 0603 sized LEDs. 5mm - Spark Fun Electronics SKU : COM-00529 (and others); PARTNO: APTD1608CGCK; GateName_1: G$1; SymbolName_1: LED; DeviceName: 0603; LibraryName: pixhawk2; DeviceSetName: LED
footprint 0603-LED
pins: A, C

## LED0603_2
designator LED?, comment AMBER
LEDsStandard schematic elements and footprints for 5mm, 3mm, 1206, and 0603 sized LEDs. 5mm - Spark Fun Electronics SKU : COM-00529 (and others); PARTNO: APTD1608SECK; GateName_1: G$1; SymbolName_1: LED; DeviceName: 0603; LibraryName: pixhawk2; DeviceSetName: LED
footprint 0603-LED
pins: A, C

## LED0603_3
designator LED?, comment BLUE
LEDsStandard schematic elements and footprints for 5mm, 3mm, 1206, and 0603 sized LEDs. 5mm - Spark Fun Electronics SKU : COM-00529 (and others); PARTNO: APTD1608QBC/D; GateName_1: G$1; SymbolName_1: LED; DeviceName: 0603; LibraryName: pixhawk2; DeviceSetName: LED
footprint 0603-LED
pins: A, C

## LED0603_4
designator LED?, comment AMBER
LEDsStandard schematic elements and footprints for 5mm, 3mm, 1206, and 0603 sized LEDs. 5mm - Spark Fun Electronics SKU : COM-00529 (and others); PARTNO: APTD1608SECK; GateName_1: G$1; SymbolName_1: LED; DeviceName: 0603; LibraryName: pixhawk2; DeviceSetName: LED
footprint 0603-LED
pins: A, C

## LSM303D
designator U?
LSM303D Ultra compact high performance e-compass: 3D accelerometer and 3D magnetometer module; GateName_1: G$1; SymbolName_1: LSM303D; LibraryName: pixhawk2; DeviceSetName: LSM303D; DATASHEET: http://www.st.com/internet/com/TECHNICAL_RESOURCES/TECHNICAL_LITERATURE/DATASHEET/DM00057547.pdf; LINK: http://www.st.com/internet/analog/product/253884.jsp; MFGPN: LSM303D; PARTNO: LSM303D
footprint LGA-16L
pins: 1 VDD_IO, 2 SETC, 3 SETP, 4 SCL/SPC, 5 GND, 6 SDA/SDI/SDO, 7 SDO/SA0, 8 CS, 9 INT2, 10 RSRV, 11 INT1, 12 GND, 13 GND, 14 VDD, 15 C1, 16 GND

## LT3469
designator U?
LT3469 Piezo microactuator driver with boost regulator; PARTNO: LT3469ETS8; GateName_1: G$1; SymbolName_1: LT3469; LibraryName: pixhawk2; DeviceSetName: LT3469
footprint SOT23-8
pins: 1 OUT (out), 2 FB, 3 VIN (power), 4 GND (power), 5 SW, 6 VCC, 7 +IN, 8 -IN

## LTC4117
designator U?, comment LTC4417  (value not drawn)
PARTNO: LTC4417IUF#PBF; GateName_1: G$1; DeviceSetName: LTC4117; SymbolName_1: LTC4417; LibraryName: pixhawk2
footprint MO-220
pins: P$1 UV1, P$2 OV1, P$3 UV2, P$4 OV2, P$5 UV3, P$6 OV3, P$7 ~{VALID1}, P$8 ~{VALID2}, P$9 ~{VALID3}, P$10 P$25 GND, P$11 CAS, P$12 VOUT, P$13 G3, P$14 VS3, P$15 G2, P$16 VS2, P$17 G1, P$18 VS1, P$19 V3, P$20 V2, P$21 V1, P$22 EN, P$23 ~{SHDN}, P$24 HYS

## MAX3051MAX3051EKA
designator U?, comment MAX3051
3.3-V CAN TRANSCEIVER; GateName_1: G$1; DeviceName: MAX3051EKA; SymbolName_1: MAX3051; LibraryName: pixhawk2; DeviceSetName: MAX3051; PARTNO: MAX3051EKA
footprint SOT23-8
pins: 1 DIN, 2 GND (oe), 3 VCC, 4 DOUT (out), 5 SHDN, 6 CANL, 7 CANH, 8 RS

## MIC5332
designator U?
PARTNO: MIC5332-SSYMT; GateName_1: G$1; SymbolName_1: MIC5332; LibraryName: pixhawk2; DeviceSetName: MIC5332
footprint MLF-8-EPAD
pins: 1 VIN, 2 GND GND, 3 POR2, 4 EN2, 5 EN1, 6 CSET, 7 VOUT2, 8 VOUT1

## MIC5332_1
designator U?, comment MIC5332
PARTNO: MIC5332-SSYMT; GateName_1: G$1; SymbolName_1: MIC5332; LibraryName: pixhawk2; DeviceSetName: MIC5332
footprint MLF-8-EPAD
pins: 1 VIN, 2 GND GND, 3 POR2, 4 EN2, 5 EN1, 6 CSET, 7 VOUT2, 8 VOUT1

## MICROSDSDI
designator U?, comment 2908-05WB-MG
GateName_1: G$1; SymbolName_1: MICROSDSDI; LibraryName: baseboard; DeviceSetName: MICROSDSDI; PARTNO: 2908-05WB-MG
footprint MICROSD
pins: 1 D2, 2 D3, 3 CMD, 4 VCC, 5 CLK, 6 GND (oe), 7 D0, 8 D1

## MOLEX-47346-0001
designator J?, comment 47346-0001
MICRO USB B, BOTTOM MOUNT; GateName_1: G$1; SymbolName_1: MINI-USB; DeviceSetName: MOLEX-47346-0001; LibraryName: pixhawk2; NAME: *; PARTNO: 47346-0001
footprint MOLEX-47346-0001
pins: D+ 3, D- 2, GND 5 (oe), GND1, GND2, GND3, GND4, ID 4, VBUS 1 (oe)

## MOSFET-DUAL-PCHANNEL-CHIPFET
designator U?, comment NTHD4102PT1G
GateName_1: -PMOS1; SymbolName_1: MOSFET-PCHANNEL; GateName_2: -PMOS2; DeviceName: -CHIPFET; DeviceSetName: MOSFET-DUAL-PCHANNEL; SymbolName_2: MOSFET-PCHANNEL; LibraryName: pixhawk2; NAME: *; PARTNO: NTHD4102PT1G; D: D; S: S; G: G
footprint 1206-8
part A pins: P$1 S, P$2 G, P$7 P$8 D
part B pins: P$3 S, P$4 G, P$5 P$6 D

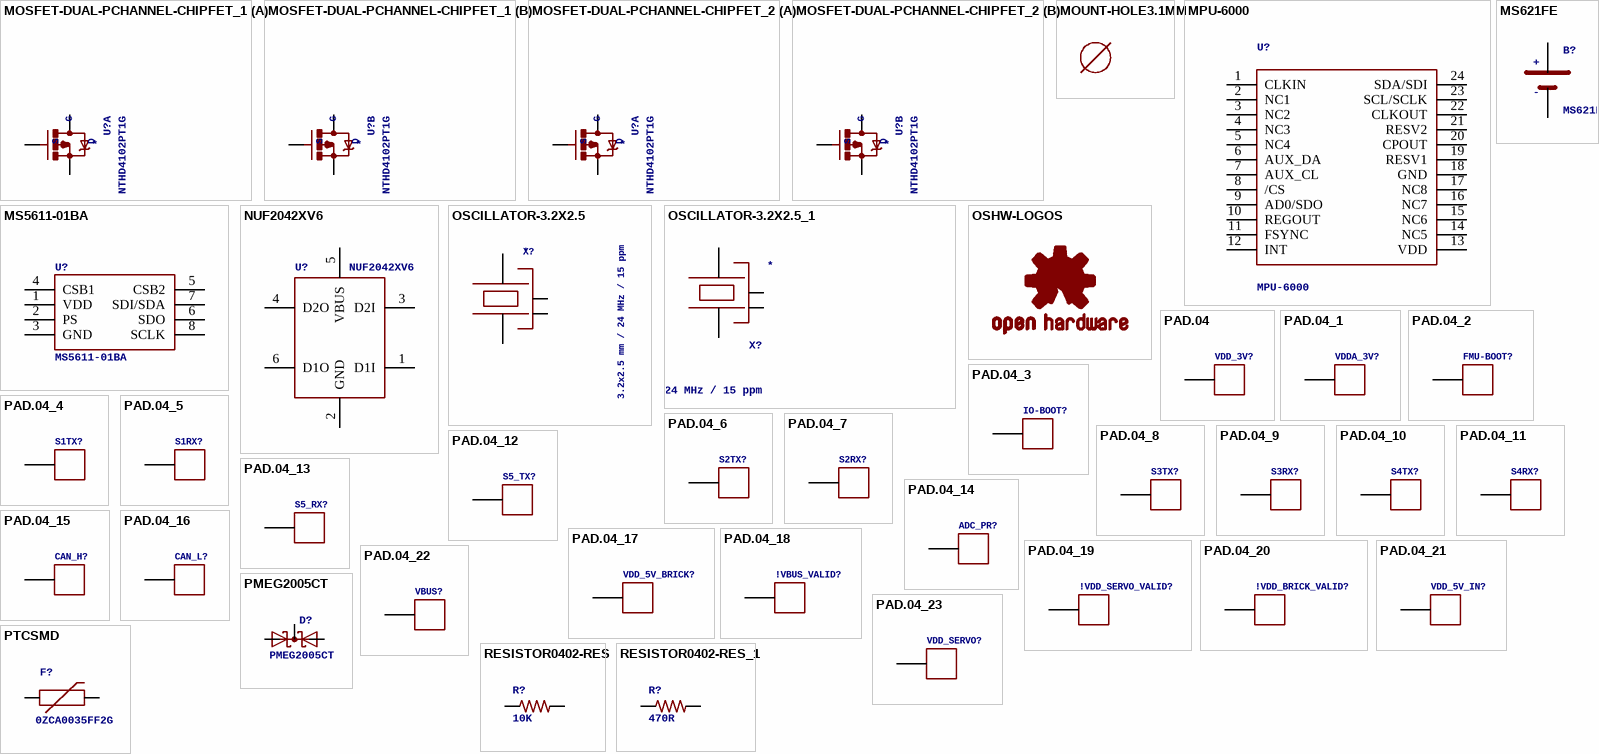
[diagram p4: symbols MOSFET-DUAL-PCHANNEL-CHIPFET_1 to RESISTOR0402-RES_1]

## MOSFET-DUAL-PCHANNEL-CHIPFET_1
designator U?, comment NTHD4102PT1G
GateName_1: -PMOS1; SymbolName_1: MOSFET-PCHANNEL; GateName_2: -PMOS2; DeviceName: -CHIPFET; DeviceSetName: MOSFET-DUAL-PCHANNEL; SymbolName_2: MOSFET-PCHANNEL; LibraryName: pixhawk2; NAME: *; PARTNO: NTHD4102PT1G; D: D; S: S; G: G
footprint 1206-8
part A pins: P$1 S, P$2 G, P$7 P$8 D
part B pins: P$3 S, P$4 G, P$5 P$6 D

## MOSFET-DUAL-PCHANNEL-CHIPFET_2
designator U?, comment NTHD4102PT1G
GateName_1: -PMOS1; SymbolName_1: MOSFET-PCHANNEL; GateName_2: -PMOS2; DeviceName: -CHIPFET; DeviceSetName: MOSFET-DUAL-PCHANNEL; SymbolName_2: MOSFET-PCHANNEL; LibraryName: pixhawk2; NAME: *; PARTNO: NTHD4102PT1G; D: D; S: S; G: G
footprint 1206-8
part A pins: P$1 S, P$2 G, P$7 P$8 D
part B pins: P$3 S, P$4 G, P$5 P$6 D

## MOUNT-HOLE3.1MM
designator M3_MOUNT?  (value not drawn)
GateName_1: G$1; DeviceName: 3.1MM; BOM: EXCLUDE; SymbolName_1: MOUNT-HOLE; LibraryName: pixhawk2; DeviceSetName: MOUNT-HOLE; PARTNO: *
footprint MOUNT-HOLE3.1

## MPU-6000
designator U?
Invensense MPU-6000: 3-axis gyro, 3-axis accel & 9-axis MotionFusionThe MPU-60X0 Motion Processing Unit (MPU?) is the world?s first motion processing solution with integrated 9-axis sensor fusion for handset and tablet applications, game controllers, motion pointer remote controls, and other consumer devices. The MPU-60X0 has an embedded 3-axis MEMS gyroscope, 3-axis MEMS accelerometer and Digital Motion Processor? (DMP) hardware accelerator engine with an auxiliary I 2 C port that interfaces to third party digital sensors, such as magnetometers. Interfacing with a 3-axis magnetometer delivers a complete 9-axis sensor fusion output to the MPU?s primary I 2 C or SPI port. (SPI is available on MPU-6000 only). This combines acceleration and rotational motion plus heading information into a single data stream for the application; GateName_1: G$1; SymbolName_1: MPU-6000; LibraryName: pixhawk2; DeviceSetName: MPU-6000; DATASHEET: http://invensense.com/mems/gyro/documents/PS-MPU-6000A-00_v1.0.pdf; LINK: http://invensense.com/mems/gyro/mpu6000.html; MFGPN: MPU-6000; PARTNO: MPU-6000
footprint QFN-24
pins: 1 CLKIN, 2 NC1, 3 NC2, 4 NC3, 5 NC4, 6 AUX_DA, 7 AUX_CL, 8 /CS, 9 AD0/SDO, 10 REGOUT, 11 FSYNC, 12 INT, 13 VDD, 14 NC5, 15 NC6, 16 NC7, 17 NC8, 18 GND, 19 RESV1, 20 CPOUT, 21 RESV2, 22 CLKOUT, 23 SCL/SCLK, 24 SDA/SDI

## MS621FE
designator B?
SEIKO 6.8mm Rechargeable 3V lithium batteryIf discontinued or not available, similar devices are available from Panasonic and Sanyo, usually direct replacements.; PARTNO: MS621FE-FL11E; GateName_1: G$1; SymbolName_1: BATTERY; LibraryName: pixhawk2; DeviceSetName: MS621FE; DATASHEET: http://speed.sii.co.jp/data/file_PRODUCT_MASTER_50112_TITLE_IMAGESP.pdf; LINK: http://search.digikey.com/us/en/products/MS621FE-FL11E/728-1057-ND/1889208; MFGPN: MS621FE; +: +; -: -
footprint MS621FE
pins: 1 POS, 2 NEG

## MS5611-01BA
designator U?
MS5611-01BAThe MS5611-01BA is a new generation of high resolution altimeter sensors from MEAS Switzerland with SPI and I 2 C bus interface. It is optimized for altimeters and  variometers with an altitude resolution of 10 cm. The sensor module includes a high linearity pressure sensor and an ultra low power 24 bit ?? ADC with internal factory calibrated coefficients. It provides a precise digital 24 Bit pressure and temperature value and different operation modes that allow the user to optimize for conversion speed and current consumption. A high resolution temperature output allows the implementation of an altimeter/thermometer function without any additional sensor. The MS5611-01BA can be interfaced to virtually any microcontroller. The communication protocol is simple, without the need of programming internal registers in the device. Small dimensions of only 5.0 mm x 3.0 mm and a height of 1.7 mm allow for integration in mobile devices. This new sensor module generation is based on leading MEMS technology and latest benefits from  MEAS Switzerland proven experience and know-how in high volume manufacturing of altimeter modules, which have been widely used for over a decade. The sensing principle employed leads to very low hysteresis and high stability of both pressure and temperature signal.; GateName_1: G$1; SymbolName_1: MS5611-01BA; LibraryName: pixhawk2; DeviceSetName: MS5611-01BA; DATASHEET: http://www.meas-spec.com/downloads/MS5611-01BA01.pdf; LINK: http://www.meas-spec.com/product/t_product.aspx?id=8503#; MFGPN: MS5611-01BA; PARTNO: MS5611-01BA
footprint MS5611-01BA
pins: 1 VDD, 2 PS, 3 GND, 4 CSB1, 5 CSB2, 6 SDO, 7 SDI/SDA, 8 SCLK

## NUF2042XV6
designator U?
PARTNO: NUF2042XV6T1G; GateName_1: G$1; SymbolName_1: NUF20X0XV6; LibraryName: pixhawk2; DeviceSetName: NUF2042XV6
footprint SOT563-6
pins: 1 D1I, 2 GND, 3 D2I, 4 D2O, 5 VBUS, 6 D1O

## OSCILLATOR-3.2X2.5
designator X?, comment 3.2x2.5 mm / 24 MHz / 15 ppm
Crystal Oscillator in 3.2x2.5 SMD; PARTNO: NX3225SA-24.000000MHZ; GateName_1: G$1; SymbolName_1: XTAL; DeviceName: -3.2X2.5; LibraryName: pixhawk2; DeviceSetName: OSCILLATOR; NAME: *
footprint OSCILLATOR-3.2X2.5
pins: 1, 2 NC_2 (oe), 3, 4 NC_4 (oe)

## OSCILLATOR-3.2X2.5_1
designator X?, comment 3.2x2.5 mm / 24 MHz / 15 ppm
Crystal Oscillator in 3.2x2.5 SMD; PARTNO: NX3225SA-24.000000MHZ; GateName_1: G$1; SymbolName_1: XTAL; DeviceName: -3.2X2.5; LibraryName: pixhawk2; DeviceSetName: OSCILLATOR; NAME: *
footprint OSCILLATOR-3.2X2.5
pins: 1, 2 NC_2 (oe), 3, 4 NC_4 (oe)

## OSHW-LOGOS
designator OSHW_LOGO?  (value not drawn)
Open Source Hardware Logo This logo indicates the piece of hardware it is found on incorporates a OSHW license and/or adheres to the definition of open source hardware found here: http://freedomdefined.org/OSHW; GateName_1: G$1; DeviceName: S; BOM: EXCLUDE; SymbolName_1: OSHW-LOGO; LibraryName: pixhawk2; DeviceSetName: OSHW-LOGO; PARTNO: *
footprint OSHW-LOGO-S

## PAD.04
designator VDD_3V?  (value not drawn)
Test padThis footprint includes three classes: The actual test pads, a pogo-pin footprint to mount the pogo-pin as through-hole part and a hole footprint which allows the head of the pogo-pin to pass through (do NOT use the hole to mount the pogo-pin). In a typical test setup, the stack would consist of three PCBs: The actual PCB under testing with a test pad on the bottom, then a second PCB with the hole for the pogo-pin head where the PCB under testing is pressed on and a third PCB at 30 mm / 1.2" distance with the pogo-pin footprints. The pogo-pins are soldered to the last PCB. To create the stack, copy the board under testing and exchange the footprints - this way the correct positioning is ensured.; GateName_1: G$1; DeviceName: .04; BOM: EXCLUDE; SymbolName_1: PAD; LibraryName: pixhawk2; DeviceSetName: PAD; PARTNO: *
footprint PAD.04X.04
pins: P$1

## PAD.04_1
designator VDDA_3V?, comment PAD.04  (value not drawn)
Test padThis footprint includes three classes: The actual test pads, a pogo-pin footprint to mount the pogo-pin as through-hole part and a hole footprint which allows the head of the pogo-pin to pass through (do NOT use the hole to mount the pogo-pin). In a typical test setup, the stack would consist of three PCBs: The actual PCB under testing with a test pad on the bottom, then a second PCB with the hole for the pogo-pin head where the PCB under testing is pressed on and a third PCB at 30 mm / 1.2" distance with the pogo-pin footprints. The pogo-pins are soldered to the last PCB. To create the stack, copy the board under testing and exchange the footprints - this way the correct positioning is ensured.; GateName_1: G$1; DeviceName: .04; BOM: EXCLUDE; SymbolName_1: PAD; LibraryName: pixhawk2; DeviceSetName: PAD; PARTNO: *
footprint PAD.04X.04
pins: P$1

## PAD.04_2
designator FMU-BOOT?, comment PAD.04  (value not drawn)
Test padThis footprint includes three classes: The actual test pads, a pogo-pin footprint to mount the pogo-pin as through-hole part and a hole footprint which allows the head of the pogo-pin to pass through (do NOT use the hole to mount the pogo-pin). In a typical test setup, the stack would consist of three PCBs: The actual PCB under testing with a test pad on the bottom, then a second PCB with the hole for the pogo-pin head where the PCB under testing is pressed on and a third PCB at 30 mm / 1.2" distance with the pogo-pin footprints. The pogo-pins are soldered to the last PCB. To create the stack, copy the board under testing and exchange the footprints - this way the correct positioning is ensured.; GateName_1: G$1; DeviceName: .04; BOM: EXCLUDE; SymbolName_1: PAD; LibraryName: pixhawk2; DeviceSetName: PAD; PARTNO: *
footprint PAD.04X.04
pins: P$1

## PAD.04_3
designator IO-BOOT?, comment PAD.04  (value not drawn)
Test padThis footprint includes three classes: The actual test pads, a pogo-pin footprint to mount the pogo-pin as through-hole part and a hole footprint which allows the head of the pogo-pin to pass through (do NOT use the hole to mount the pogo-pin). In a typical test setup, the stack would consist of three PCBs: The actual PCB under testing with a test pad on the bottom, then a second PCB with the hole for the pogo-pin head where the PCB under testing is pressed on and a third PCB at 30 mm / 1.2" distance with the pogo-pin footprints. The pogo-pins are soldered to the last PCB. To create the stack, copy the board under testing and exchange the footprints - this way the correct positioning is ensured.; GateName_1: G$1; DeviceName: .04; BOM: EXCLUDE; SymbolName_1: PAD; LibraryName: pixhawk2; DeviceSetName: PAD; PARTNO: *
footprint PAD.04X.04
pins: P$1

## PAD.04_4
designator S1TX?, comment PAD.04  (value not drawn)
Test padThis footprint includes three classes: The actual test pads, a pogo-pin footprint to mount the pogo-pin as through-hole part and a hole footprint which allows the head of the pogo-pin to pass through (do NOT use the hole to mount the pogo-pin). In a typical test setup, the stack would consist of three PCBs: The actual PCB under testing with a test pad on the bottom, then a second PCB with the hole for the pogo-pin head where the PCB under testing is pressed on and a third PCB at 30 mm / 1.2" distance with the pogo-pin footprints. The pogo-pins are soldered to the last PCB. To create the stack, copy the board under testing and exchange the footprints - this way the correct positioning is ensured.; GateName_1: G$1; DeviceName: .04; BOM: EXCLUDE; SymbolName_1: PAD; LibraryName: pixhawk2; DeviceSetName: PAD; PARTNO: *
footprint PAD.04X.04
pins: P$1

## PAD.04_5
designator S1RX?, comment PAD.04  (value not drawn)
Test padThis footprint includes three classes: The actual test pads, a pogo-pin footprint to mount the pogo-pin as through-hole part and a hole footprint which allows the head of the pogo-pin to pass through (do NOT use the hole to mount the pogo-pin). In a typical test setup, the stack would consist of three PCBs: The actual PCB under testing with a test pad on the bottom, then a second PCB with the hole for the pogo-pin head where the PCB under testing is pressed on and a third PCB at 30 mm / 1.2" distance with the pogo-pin footprints. The pogo-pins are soldered to the last PCB. To create the stack, copy the board under testing and exchange the footprints - this way the correct positioning is ensured.; GateName_1: G$1; DeviceName: .04; BOM: EXCLUDE; SymbolName_1: PAD; LibraryName: pixhawk2; DeviceSetName: PAD; PARTNO: *
footprint PAD.04X.04
pins: P$1

## PAD.04_6
designator S2TX?, comment PAD.04  (value not drawn)
Test padThis footprint includes three classes: The actual test pads, a pogo-pin footprint to mount the pogo-pin as through-hole part and a hole footprint which allows the head of the pogo-pin to pass through (do NOT use the hole to mount the pogo-pin). In a typical test setup, the stack would consist of three PCBs: The actual PCB under testing with a test pad on the bottom, then a second PCB with the hole for the pogo-pin head where the PCB under testing is pressed on and a third PCB at 30 mm / 1.2" distance with the pogo-pin footprints. The pogo-pins are soldered to the last PCB. To create the stack, copy the board under testing and exchange the footprints - this way the correct positioning is ensured.; GateName_1: G$1; DeviceName: .04; BOM: EXCLUDE; SymbolName_1: PAD; LibraryName: pixhawk2; DeviceSetName: PAD; PARTNO: *
footprint PAD.04X.04
pins: P$1

## PAD.04_7
designator S2RX?, comment PAD.04  (value not drawn)
Test padThis footprint includes three classes: The actual test pads, a pogo-pin footprint to mount the pogo-pin as through-hole part and a hole footprint which allows the head of the pogo-pin to pass through (do NOT use the hole to mount the pogo-pin). In a typical test setup, the stack would consist of three PCBs: The actual PCB under testing with a test pad on the bottom, then a second PCB with the hole for the pogo-pin head where the PCB under testing is pressed on and a third PCB at 30 mm / 1.2" distance with the pogo-pin footprints. The pogo-pins are soldered to the last PCB. To create the stack, copy the board under testing and exchange the footprints - this way the correct positioning is ensured.; GateName_1: G$1; DeviceName: .04; BOM: EXCLUDE; SymbolName_1: PAD; LibraryName: pixhawk2; DeviceSetName: PAD; PARTNO: *
footprint PAD.04X.04
pins: P$1

## PAD.04_8
designator S3TX?, comment PAD.04  (value not drawn)
Test padThis footprint includes three classes: The actual test pads, a pogo-pin footprint to mount the pogo-pin as through-hole part and a hole footprint which allows the head of the pogo-pin to pass through (do NOT use the hole to mount the pogo-pin). In a typical test setup, the stack would consist of three PCBs: The actual PCB under testing with a test pad on the bottom, then a second PCB with the hole for the pogo-pin head where the PCB under testing is pressed on and a third PCB at 30 mm / 1.2" distance with the pogo-pin footprints. The pogo-pins are soldered to the last PCB. To create the stack, copy the board under testing and exchange the footprints - this way the correct positioning is ensured.; GateName_1: G$1; DeviceName: .04; BOM: EXCLUDE; SymbolName_1: PAD; LibraryName: pixhawk2; DeviceSetName: PAD; PARTNO: *
footprint PAD.04X.04
pins: P$1